# Altium footprint library E32-900T30D-PcbLib.PcbLib: 1 footprints
Each footprint in its own frame and in the unit in brackets; x right, y up, seen from the top. Pads: shape width x height; smd on the part's side, far side on the other; paste and mask are expansions set on the pad; w line width, h text height; cw(c..) or ccw(c..) is an arc to the next point about the centre after c.
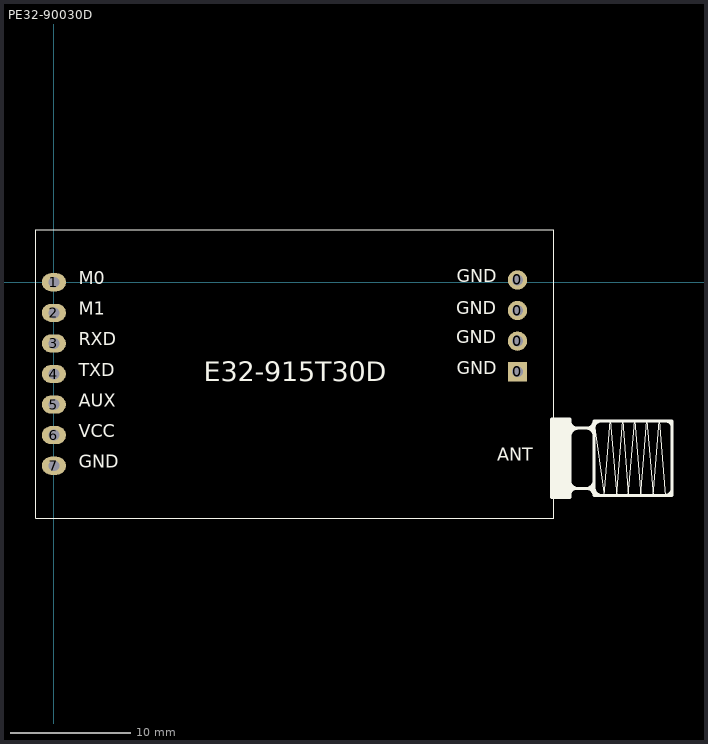
[diagram p0: the footprint, top view; thin cyan lines are the x and y axes]

## PE32-90030D [mm] "43MM*24mm-D//SMA长度12.5mm"
pads (11):
  rect 1.6x1.6 hole 0.9: 0(38.5,-7.43)
  round 1.6 hole 0.9: 0(38.5,-4.89) 0(38.5,-2.35) 0(38.5,0.19)
  oval 2x1.5 hole 0.9: 1(0,0) 2(0,-2.54) 3(0,-5.08) 4(0,-7.62) 5(0,-10.16) 6(0,-12.7) 7(0,-15.24)
Top Overlay:
  rectangle: 41.35,-17.87 42.85,-11.37
  rectangle: 41.35,-17.865 42.85,-11.365
  lines w0.1: 45.7,-17.72 46.22,-11.52 ; 45.7,-17.72 44.85,-11.52 45.7,-17.72 ; 45.7,-17.72 46.22,-11.52 ; 46.22,-11.52 46.73,-17.72 ; 46.22,-11.52 46.73,-17.72 ; 46.73,-17.72 47.24,-11.52 ; 46.73,-17.72 47.24,-11.52 ; 47.24,-11.52 47.72,-17.72 ; 47.24,-11.52 47.72,-17.72 ; 47.72,-17.72 48.24,-11.52 ; 47.72,-17.72 48.24,-11.52 ; 48.24,-11.52 48.75,-17.72 ; 48.24,-11.52 48.75,-17.72 ; 48.75,-17.72 49.24,-11.52 ; 48.75,-17.72 49.24,-11.52 ; 49.24,-11.52 49.76,-17.72 ; 49.24,-11.52 49.76,-17.72 ; 49.76,-17.72 50.28,-11.52 ; 49.76,-17.72 50.28,-11.52 ; 50.28,-11.52 50.79,-17.72 50.28,-11.52 ; -1.5,-19.62 41.5,-19.62 41.5,4.38 -1.5,4.38 -1.5,-19.62
  lines w0.254: 41.35,-17.87 42.85,-17.87 ; 41.35,-17.87 41.35,-11.37 ; 41.35,-17.87 42.85,-17.87 ; 41.35,-17.87 41.35,-11.37 ; 41.35,-11.37 42.85,-11.37 ; 41.35,-11.37 42.85,-11.37 ; 42.85,-17.87 42.85,-11.37 ; 42.85,-17.87 42.85,-11.37 ; 42.85,-16.47 ccw(c43.5,-16.47) 43.5,-17.12 ; 42.85,-16.47 ccw(c43.5,-16.47) 43.5,-17.12 ; 42.85,-16.47 42.85,-16.1 42.85,-16.47 ; 42.85,-12.82 cw(c43.55,-12.82) 43.55,-12.12 ; 42.85,-12.82 cw(c43.55,-12.82) 43.55,-12.12 ; 42.85,-12.82 42.85,-13.74 42.85,-12.82 ; 42.85,-11.49 ccw(c43.48,-11.49) 43.48,-12.12 ; 42.85,-11.49 ccw(c43.48,-11.49) 43.48,-12.12 ; 42.85,-11.49 42.85,-11.37 ; 42.85,-11.49 42.85,-11.37 ; 43.4,-17.12 ccw(c43.4,-17.67) 42.85,-17.67 cw(c43.4,-17.67) 43.4,-17.12 ; 43.4,-17.12 44.25,-17.12 ; 43.4,-17.12 44.25,-17.12 ; 43.48,-12.12 44.25,-12.12 ; 43.48,-12.12 44.25,-12.12 ; 43.5,-17.12 44.22,-17.12 ; 43.5,-17.12 44.22,-17.12 ; 43.55,-12.12 44.25,-12.12 ; 43.55,-12.12 44.25,-12.12 ; 44.22,-17.12 ccw(c44.22,-16.49) 44.85,-16.49 cw(c44.22,-16.49) 44.22,-17.12 ; 44.25,-17.12 cw(c44.25,-17.72) 44.85,-17.72 ; 44.25,-17.12 cw(c44.25,-17.72) 44.85,-17.72 ; 44.25,-12.12 cw(c44.25,-12.72) 44.85,-12.72 ccw(c44.25,-12.72) 44.25,-12.12 ; 44.25,-12.12 ccw(c44.25,-11.52) 44.85,-11.52 ; 44.25,-12.12 ccw(c44.25,-11.52) 44.85,-11.52 ; 44.85,-17.72 44.85,-11.52 ; 44.85,-17.72 51.35,-17.72 ; 44.85,-17.72 44.85,-11.52 ; 44.85,-17.72 51.35,-17.72 ; 44.85,-11.52 51.35,-11.52 ; 44.85,-11.52 51.35,-11.52 ; 45.53,-17.72 cw(c45.53,-17.04) 44.85,-17.04 ccw(c45.53,-17.04) 45.53,-17.72 ; 45.53,-17.72 45.68,-17.72 45.53,-17.72 ; 50.73,-17.72 ccw(c50.73,-17.1) 51.35,-17.1 cw(c50.73,-17.1) 50.73,-17.72 ; 50.73,-17.72 50.5,-17.72 50.73,-17.72 ; 50.81,-11.52 cw(c50.81,-12.06) 51.35,-12.06 ccw(c50.81,-12.06) 50.81,-11.52 ; 50.81,-11.52 50.41,-11.52 50.81,-11.52 ; 51.35,-17.72 51.35,-11.52 ; 51.35,-17.72 51.35,-11.52 ; 42.68,-17.12 44.85,-17.12 42.68,-17.12 ; 42.85,-12.12 44.85,-12.12 42.85,-12.12 ; 44.85,-12.13 cw(c45.46,-12.13) 45.46,-11.52 ccw(c45.46,-12.13) 44.85,-12.13
  text "E32-915T30D" at 12.446,-8.763 h2.8
  text "ANT" at 36.83,-15.19 h1.8
  text "M0" at 2.063,-0.54 h1.8
  text "M1" at 2.063,-3.08 h1.8
  text "RXD" at 2.063,-5.62 h1.8
  text "TXD" at 2.063,-8.16 h1.8
  text "AUX" at 2.063,-10.7 h1.8
  text "VCC" at 2.063,-13.24 h1.8
  text "GND" at 2.063,-15.78 h1.8
  text "GND" at 33.426,-5.429 h1.8
  text "GND" at 33.426,-3.016 h1.8
  text "GND" at 33.457,-0.381 h1.8
  text "GND" at 33.457,-8.001 h1.8